# EAGLE library part VIS (library VIS-PKG)
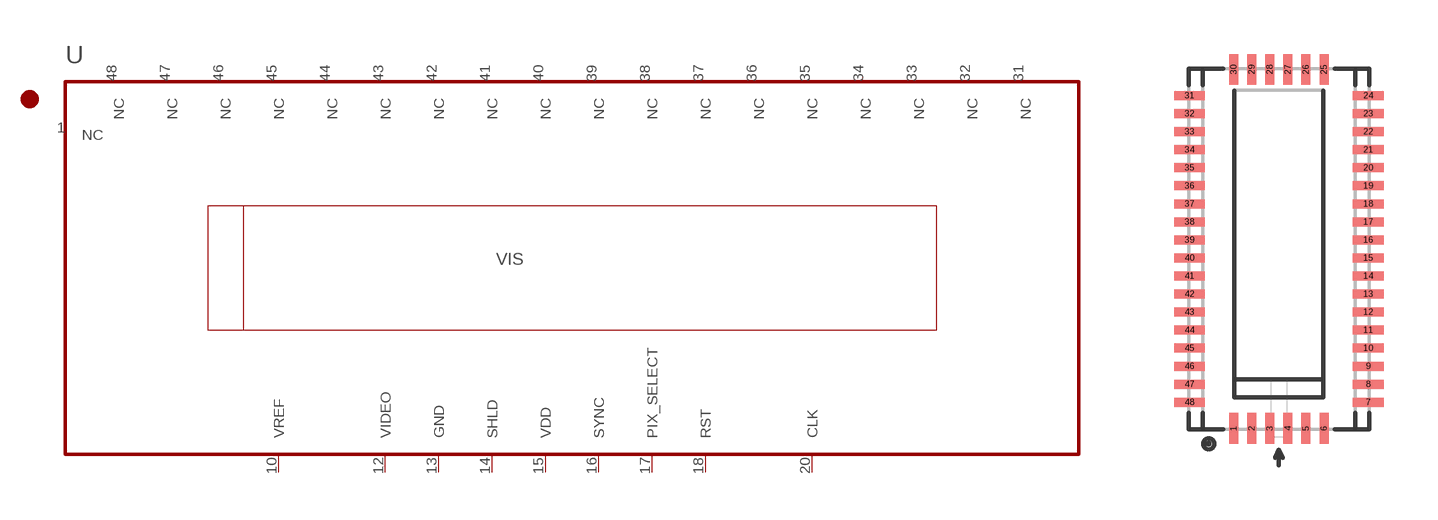
[diagram p0: symbol with the pads of VIS-PKG; footprint VIS-PKG]

Designator prefix U

## VIS-QFN48  [VIS-PKG]
1  NC  nc
2  NC  nc
3  NC  nc
4  NC  nc
5  NC  nc
6  NC  nc
7  NC  nc
8  NC  nc
9  NC  nc
10  VREF
11  NC  nc
12  VIDEO
13  GND
14  SHLD
15  VDD
16  SYNC
17  PIX_SELECT
18  RST
19  NC  nc
20  CLK
21  NC  nc
22  NC  nc
23  NC  nc
24  NC  nc
25  NC  nc
26  NC  nc
27  NC  nc
28  NC  nc
29  NC  nc
30  NC  nc
31  NC  nc
32  NC  nc
33  NC  nc
34  NC  nc
35  NC  nc
36  NC  nc
37  NC  nc
38  NC  nc
39  NC  nc
40  NC  nc
41  NC  nc
42  NC  nc
43  NC  nc
44  NC  nc
45  NC  nc
46  NC  nc
47  NC  nc
48  NC  nc

## Footprint VIS-PKG (pad centres in mm)
smd 0.25 x 0.85: 1 -1.25,-4.975; 2 -0.75,-4.975; 3 -0.25,-4.975; 4 0.25,-4.975; 5 0.75,-4.975; 6 1.25,-4.975; 25 1.25,4.975; 26 0.75,4.975; 27 0.25,4.975; 28 -0.25,4.975; 29 -0.75,4.975; 30 -1.25,4.975
smd 0.85 x 0.25: 7 2.475,-4.25; 8 2.475,-3.75; 9 2.475,-3.25; 10 2.475,-2.75; 11 2.475,-2.25; 12 2.475,-1.75; 13 2.475,-1.25; 14 2.475,-0.75; 15 2.475,-0.25; 16 2.475,0.25; 17 2.475,0.75; 18 2.475,1.25; 19 2.475,1.75; 20 2.475,2.25; 21 2.475,2.75; 22 2.475,3.25; 23 2.475,3.75; 24 2.475,4.25; 31 -2.475,4.25; 32 -2.475,3.75; 33 -2.475,3.25; 34 -2.475,2.75; 35 -2.475,2.25; 36 -2.475,1.75; 37 -2.475,1.25; 38 -2.475,0.75; 39 -2.475,0.25; 40 -2.475,-0.25; 41 -2.475,-0.75; 42 -2.475,-1.25; 43 -2.475,-1.75; 44 -2.475,-2.25; 45 -2.475,-2.75; 46 -2.475,-3.25; 47 -2.475,-3.75; 48 -2.475,-4.25